# Altium schematic symbol library 2SCR502EBHZGTL.SchLib: 2 symbols
Pins are listed as number, name and electrical type; pins without a type are passive.

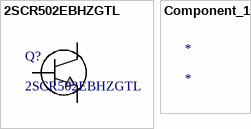
[diagram p0: symbols 2SCR502EBHZGTL to Component_1]

## 2SCR502EBHZGTL
designator Q?
Bipolar (BJT) Transistor NPN 30 V 500 mA 360MHz 150 mW Surface Mount EMT3; Mfr_Name: ROHM Semiconductor; Type: DEV; Copyright: Copyright (C) 2023 Ultra Librarian. All rights reserved.; Manufacturer_Part_Number: 2SCR502EBHZGTL; RefDes: RefDes
footprint TRANS_DTA114EEBHZ_ROM
pins: 1 COLLECTOR, 2 BASE, 3 EMITTER

## Component_1
designator *